# EAGLE library part F3311A7H121016E200 (library F3311A7H121016E200)
Flex Connector, P=0.50mm, H=1.00mm, Right angle orientation, Flip type, ZIF, Double contact, point 16P Source: Datasheet <https://cdn.amphenol-cs.com/media/wysiwyg/files/drawing/f331.pdf>
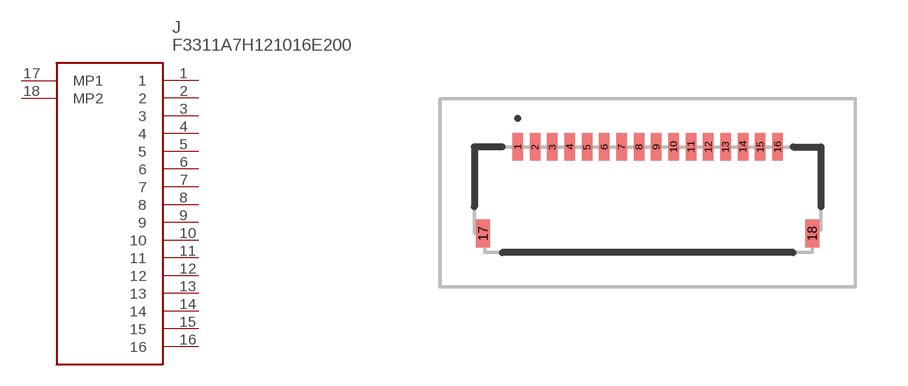
[diagram p0: symbol with the pads of F3311A7H121016E200; footprint F3311A7H121016E200]

Designator prefix J

## F3311A7H121016E200 (Description: Flex Connector, P=0.50mm, H=1.00mm, Right angle orientation, Flip type, ZIF, Double contact, point 16P; Height: 1.12mm; Manufacturer_Name: Amphenol Communications Solutions; Manufacturer_Part_Number: F3311A7H121016E200; Mouser_Part_Number: 649-311A7H121016E200; Mouser_Price-Stock: https://www.mouser.co.uk/ProductDetail/Amphenol-Aorora/F3311A7H121016E200?qs=DPoM0jnrROVwLto3hGOm7g%3D%3D)  [F3311A7H121016E200]
1  1
2  2
3  3
4  4
5  5
6  6
7  7
8  8
9  9
10  10
11  11
12  12
13  13
14  14
15  15
16  16
17  MP1
18  MP2

## Footprint F3311A7H121016E200 (pad centres in mm)
F3311A7H121016E200-2
smd 0.3 x 0.8: 1 -3.75,1.525; 2 -3.25,1.525; 3 -2.75,1.525; 4 -2.25,1.525; 5 -1.75,1.525; 6 -1.25,1.525; 7 -0.75,1.525; 8 -0.25,1.525; 9 0.25,1.525; 10 0.75,1.525; 11 1.25,1.525; 12 1.75,1.525; 13 2.25,1.525; 14 2.75,1.525; 15 3.25,1.525; 16 3.75,1.525
smd 0.4 x 0.8: 17 -4.75,-0.975; 18 4.75,-0.975